# Altium schematic symbol library 1.3 - CD4000系列逻辑芯片.SCHLIB: 171 symbols (part 2 of 2)
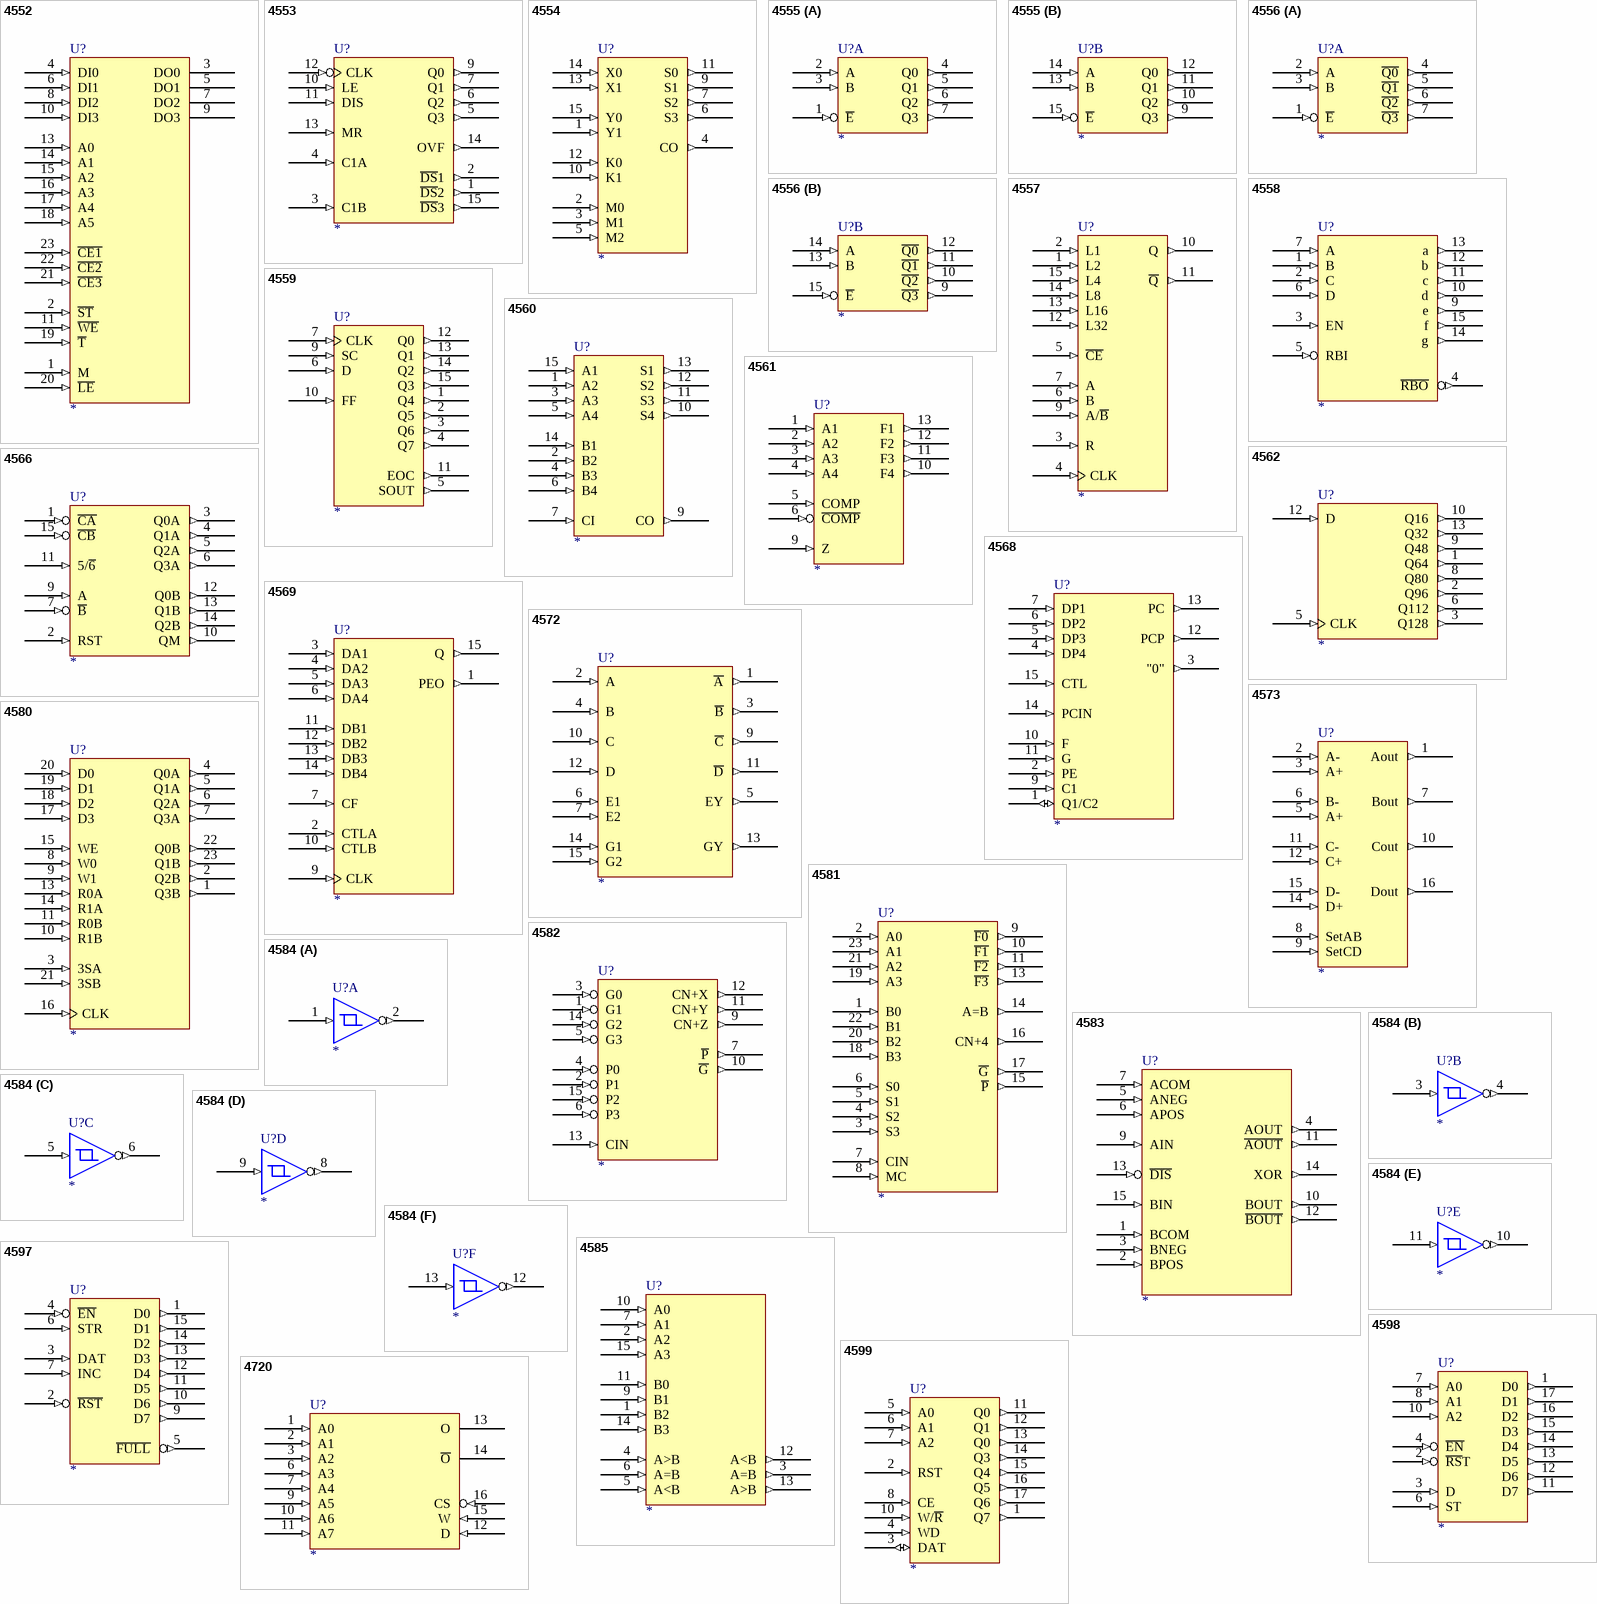
[diagram p8: symbols 4552 to 4720]

## 4558
designator U?
1.库作者: 冰凌猫; 2.库版本: v2.0 (2021.03.30); 3.交流分享: Q群514746572,开源更新,欢迎一起交流学习PCB设计; 4.作者声明: 旨为整合最全库集,欢迎转载,禁止商用！-冰凌猫; 5.备注说明: 该库已二次整合过网上各热销库,基本最全,无需重复搜购安装
footprint DIP-16
pins: 1 B (in), 2 C (in), 3 EN (in), 4 ~{RBO} (out), 5 RBI (in), 6 D (in), 7 A (in), 8 GND (power) hidden to GND, 9 e (out), 10 d (out), 11 c (out), 12 b (out), 13 a (out), 14 g (out), 15 f (out), 16 VCC (power) hidden to VCC

## 4559
designator U?
1.库作者: 冰凌猫; 2.库版本: v2.0 (2021.03.30); 3.交流分享: Q群514746572,开源更新,欢迎一起交流学习PCB设计; 4.作者声明: 旨为整合最全库集,欢迎转载,禁止商用！-冰凌猫; 5.备注说明: 该库已二次整合过网上各热销库,基本最全,无需重复搜购安装
footprint DIP-16
pins: 1 Q4 (out), 2 Q5 (out), 3 Q6 (out), 4 Q7 (out), 5 SOUT (out), 6 D (in), 7 CLK (in), 8 GND (power) hidden to GND, 9 SC (in), 10 FF (in), 11 EOC (out), 12 Q0 (out), 13 Q1 (out), 14 Q2 (out), 15 Q3 (out), 16 VCC (power) hidden to VCC

## 4560
designator U?
1.库作者: 冰凌猫; 2.库版本: v2.0 (2021.03.30); 3.交流分享: Q群514746572,开源更新,欢迎一起交流学习PCB设计; 4.作者声明: 旨为整合最全库集,欢迎转载,禁止商用！-冰凌猫; 5.备注说明: 该库已二次整合过网上各热销库,基本最全,无需重复搜购安装
footprint DIP-16
pins: 1 A2 (in), 2 B2 (in), 3 A3 (in), 4 B3 (in), 5 A4 (in), 6 B4 (in), 7 CI (in), 8 GND (power) hidden to GND, 9 CO (out), 10 S4 (out), 11 S3 (out), 12 S2 (out), 13 S1 (out), 14 B1 (in), 15 A1 (in), 16 VCC (power) hidden to VCC

## 4561
designator U?
1.库作者: 冰凌猫; 2.库版本: v2.0 (2021.03.30); 3.交流分享: Q群514746572,开源更新,欢迎一起交流学习PCB设计; 4.作者声明: 旨为整合最全库集,欢迎转载,禁止商用！-冰凌猫; 5.备注说明: 该库已二次整合过网上各热销库,基本最全,无需重复搜购安装
footprint DIP-14
pins: 1 A1 (in), 2 A2 (in), 3 A3 (in), 4 A4 (in), 5 COMP (in), 6 ~{COMP} (in), 7 GND (power) hidden to GND, 9 Z (in), 10 F4 (out), 11 F3 (out), 12 F2 (out), 13 F1 (out), 14 VCC (power) hidden to VCC

## 4562
designator U?
1.库作者: 冰凌猫; 2.库版本: v2.0 (2021.03.30); 3.交流分享: Q群514746572,开源更新,欢迎一起交流学习PCB设计; 4.作者声明: 旨为整合最全库集,欢迎转载,禁止商用！-冰凌猫; 5.备注说明: 该库已二次整合过网上各热销库,基本最全,无需重复搜购安装
footprint DIP-14
pins: 1 Q64 (out), 2 Q96 (out), 3 Q128 (out), 5 CLK (in), 6 Q112 (out), 7 GND (power) hidden to GND, 8 Q80 (out), 9 Q48 (out), 10 Q16 (out), 12 D (in), 13 Q32 (out), 14 VCC (power) hidden to VCC

## 4566
designator U?
1.库作者: 冰凌猫; 2.库版本: v2.0 (2021.03.30); 3.交流分享: Q群514746572,开源更新,欢迎一起交流学习PCB设计; 4.作者声明: 旨为整合最全库集,欢迎转载,禁止商用！-冰凌猫; 5.备注说明: 该库已二次整合过网上各热销库,基本最全,无需重复搜购安装
footprint DIP-16
pins: 1 ~{CA} (in), 2 RST (in), 3 Q0A (out), 4 Q1A (out), 5 Q2A (out), 6 Q3A (out), 7 ~{B} (in), 8 GND (power) hidden to GND, 9 A (in), 10 QM (out), 11 5/~{6} (in), 12 Q0B (out), 13 Q1B (out), 14 Q2B (out), 15 ~{CB} (in), 16 VCC (power) hidden to VCC

## 4568
designator U?
1.库作者: 冰凌猫; 2.库版本: v2.0 (2021.03.30); 3.交流分享: Q群514746572,开源更新,欢迎一起交流学习PCB设计; 4.作者声明: 旨为整合最全库集,欢迎转载,禁止商用！-冰凌猫; 5.备注说明: 该库已二次整合过网上各热销库,基本最全,无需重复搜购安装
footprint DIP-16
pins: 1 Q1/C2 (io), 2 PE (in), 3 "0" (out), 4 DP4 (in), 5 DP3 (in), 6 DP2 (in), 7 DP1 (in), 8 GND (power) hidden to GND, 9 C1 (in), 10 F (in), 11 G (in), 12 PCP (out), 13 PC (out), 14 PCIN (in), 15 CTL (in), 16 VCC (power) hidden to VCC

## 4569
designator U?
1.库作者: 冰凌猫; 2.库版本: v2.0 (2021.03.30); 3.交流分享: Q群514746572,开源更新,欢迎一起交流学习PCB设计; 4.作者声明: 旨为整合最全库集,欢迎转载,禁止商用！-冰凌猫; 5.备注说明: 该库已二次整合过网上各热销库,基本最全,无需重复搜购安装
footprint DIP-16
pins: 1 PEO (out), 2 CTLA (in), 3 DA1 (in), 4 DA2 (in), 5 DA3 (in), 6 DA4 (in), 7 CF (in), 8 GND (power) hidden to GND, 9 CLK (in), 10 CTLB (in), 11 DB1 (in), 12 DB2 (in), 13 DB3 (in), 14 DB4 (in), 15 Q (out), 16 VCC (power) hidden to VCC

## 4572
designator U?
1.库作者: 冰凌猫; 2.库版本: v2.0 (2021.03.30); 3.交流分享: Q群514746572,开源更新,欢迎一起交流学习PCB设计; 4.作者声明: 旨为整合最全库集,欢迎转载,禁止商用！-冰凌猫; 5.备注说明: 该库已二次整合过网上各热销库,基本最全,无需重复搜购安装
footprint DIP-16
pins: 1 ~{A} (out), 2 A (in), 3 ~{B} (out), 4 B (in), 5 EY (out), 6 E1 (in), 7 E2 (in), 8 GND (power) hidden to GND, 9 ~{C} (out), 10 C (in), 11 ~{D} (out), 12 D (in), 13 GY (out), 14 G1 (in), 15 G2 (in), 16 VCC (power) hidden to VCC

## 4573
designator U?
1.库作者: 冰凌猫; 2.库版本: v2.0 (2021.03.30); 3.交流分享: Q群514746572,开源更新,欢迎一起交流学习PCB设计; 4.作者声明: 旨为整合最全库集,欢迎转载,禁止商用！-冰凌猫; 5.备注说明: 该库已二次整合过网上各热销库,基本最全,无需重复搜购安装
footprint DIP-16
pins: 1 Aout (out), 2 A- (in), 3 A+ (in), 4 VCC (power) hidden to VCC, 5 A+ (in), 6 B- (in), 7 Bout (out), 8 SetAB (in), 9 SetCD (in), 10 Cout (out), 11 C- (in), 12 C+ (in), 13 GND (power) hidden to GND, 14 D+ (in), 15 D- (in), 16 Dout (out)

## 4580
designator U?
1.库作者: 冰凌猫; 2.库版本: v2.0 (2021.03.30); 3.交流分享: Q群514746572,开源更新,欢迎一起交流学习PCB设计; 4.作者声明: 旨为整合最全库集,欢迎转载,禁止商用！-冰凌猫; 5.备注说明: 该库已二次整合过网上各热销库,基本最全,无需重复搜购安装
footprint DIP-24
pins: 1 Q3B (out), 2 Q2B (out), 3 3SA (in), 4 Q0A (out), 5 Q1A (out), 6 Q2A (out), 7 Q3A (out), 8 W0 (in), 9 W1 (in), 10 R1B (in), 11 R0B (in), 12 GND (power) hidden to GND, 13 R0A (in), 14 R1A (in), 15 WE (in), 16 CLK (in), 17 D3 (in), 18 D2 (in), 19 D1 (in), 20 D0 (in), 21 3SB (in), 22 Q0B (out), 23 Q1B (out), 24 VCC (power) hidden to VCC

## 4581
designator U?
1.库作者: 冰凌猫; 2.库版本: v2.0 (2021.03.30); 3.交流分享: Q群514746572,开源更新,欢迎一起交流学习PCB设计; 4.作者声明: 旨为整合最全库集,欢迎转载,禁止商用！-冰凌猫; 5.备注说明: 该库已二次整合过网上各热销库,基本最全,无需重复搜购安装
footprint DIP-24
pins: 1 B0 (in), 2 A0 (in), 3 S3 (in), 4 S2 (in), 5 S1 (in), 6 S0 (in), 7 CIN (in), 8 MC (in), 9 ~{F0} (out), 10 ~{F1} (out), 11 ~{F2} (out), 12 GND (power) hidden to GND, 13 ~{F3} (out), 14 A=B (out), 15 ~{P} (out), 16 CN+4 (out), 17 ~{G} (out), 18 B3 (in), 19 A3 (in), 20 B2 (in), 21 A2 (in), 22 B1 (in), 23 A1 (in), 24 VCC (power) hidden to VCC

## 4582
designator U?
1.库作者: 冰凌猫; 2.库版本: v2.0 (2021.03.30); 3.交流分享: Q群514746572,开源更新,欢迎一起交流学习PCB设计; 4.作者声明: 旨为整合最全库集,欢迎转载,禁止商用！-冰凌猫; 5.备注说明: 该库已二次整合过网上各热销库,基本最全,无需重复搜购安装
footprint DIP-16
pins: 1 G1 (in), 2 P1 (in), 3 G0 (in), 4 P0 (in), 5 G3 (in), 6 P3 (in), 7 ~{P} (out), 8 GND (power) hidden to GND, 9 CN+Z (out), 10 ~{G} (out), 11 CN+Y (out), 12 CN+X (out), 13 CIN (in), 14 G2 (in), 15 P2 (in), 16 VCC (power) hidden to VCC

## 4583
designator U?
1.库作者: 冰凌猫; 2.库版本: v2.0 (2021.03.30); 3.交流分享: Q群514746572,开源更新,欢迎一起交流学习PCB设计; 4.作者声明: 旨为整合最全库集,欢迎转载,禁止商用！-冰凌猫; 5.备注说明: 该库已二次整合过网上各热销库,基本最全,无需重复搜购安装
footprint DIP-16
pins: 1 BCOM (in), 2 BPOS (in), 3 BNEG (in), 4 AOUT (out), 5 ANEG (in), 6 APOS (in), 7 ACOM (in), 8 GND (power) hidden to GND, 9 AIN (in), 10 BOUT (out), 11 ~{AOUT} (out), 12 ~{BOUT} (out), 13 ~{DIS} (in), 14 XOR (out), 15 BIN (in), 16 VCC (power) hidden to VCC

## 4584
designator U?
1.库作者: 冰凌猫; 2.库版本: v2.0 (2021.03.30); 3.交流分享: Q群514746572,开源更新,欢迎一起交流学习PCB设计; 4.作者声明: 旨为整合最全库集,欢迎转载,禁止商用！-冰凌猫; 5.备注说明: 该库已二次整合过网上各热销库,基本最全,无需重复搜购安装
footprint DIP-14
part A pins: 1 (in), 2 (out), 7 GND (power) hidden to GND, 14 VCC (power) hidden to VCC
part B pins: 3 (in), 4 (out), 7 GND (power) hidden to GND, 14 VCC (power) hidden to VCC
part C pins: 5 (in), 6 (out), 7 GND (power) hidden to GND, 14 VCC (power) hidden to VCC
part D pins: 7 GND (power) hidden to GND, 8 (out), 9 (in), 14 VCC (power) hidden to VCC
part E pins: 7 GND (power) hidden to GND, 10 (out), 11 (in), 14 VCC (power) hidden to VCC
part F pins: 7 GND (power) hidden to GND, 12 (out), 13 (in), 14 VCC (power) hidden to VCC

## 4585
designator U?
1.库作者: 冰凌猫; 2.库版本: v2.0 (2021.03.30); 3.交流分享: Q群514746572,开源更新,欢迎一起交流学习PCB设计; 4.作者声明: 旨为整合最全库集,欢迎转载,禁止商用！-冰凌猫; 5.备注说明: 该库已二次整合过网上各热销库,基本最全,无需重复搜购安装
footprint DIP-16
pins: 1 B2 (in), 2 A2 (in), 3 A=B (out), 4 A>B (in), 5 A<B (in), 6 A=B (in), 7 A1 (in), 8 GND (power) hidden to GND, 9 B1 (in), 10 A0 (in), 11 B0 (in), 12 A<B (out), 13 A>B (out), 14 B3 (in), 15 A3 (in), 16 VCC (power) hidden to VCC

## 4597
designator U?
1.库作者: 冰凌猫; 2.库版本: v2.0 (2021.03.30); 3.交流分享: Q群514746572,开源更新,欢迎一起交流学习PCB设计; 4.作者声明: 旨为整合最全库集,欢迎转载,禁止商用！-冰凌猫; 5.备注说明: 该库已二次整合过网上各热销库,基本最全,无需重复搜购安装
footprint DIP-16
pins: 1 D0 (out), 2 ~{RST} (in), 3 DAT (in), 4 ~{EN} (in), 5 ~{FULL} (out), 6 STR (in), 7 INC (in), 8 GND (power) hidden to GND, 9 D7 (out), 10 D6 (out), 11 D5 (out), 12 D4 (out), 13 D3 (out), 14 D2 (out), 15 D1 (out), 16 VCC (power) hidden to VCC

## 4598
designator U?
1.库作者: 冰凌猫; 2.库版本: v2.0 (2021.03.30); 3.交流分享: Q群514746572,开源更新,欢迎一起交流学习PCB设计; 4.作者声明: 旨为整合最全库集,欢迎转载,禁止商用！-冰凌猫; 5.备注说明: 该库已二次整合过网上各热销库,基本最全,无需重复搜购安装
footprint DIP-16
pins: 1 D0 (out), 2 ~{RS}T (in), 3 D (in), 4 ~{EN} (in), 6 ST (in), 7 A0 (in), 8 GND (power) hidden to GND, 8 A1 (in), 10 A2 (in), 11 D7 (out), 12 D6 (out), 13 D5 (out), 14 D4 (out), 15 D3 (out), 16 VCC (power) hidden to VCC, 16 D2 (out), 17 D1 (out)

## 4599
designator U?
1.库作者: 冰凌猫; 2.库版本: v2.0 (2021.03.30); 3.交流分享: Q群514746572,开源更新,欢迎一起交流学习PCB设计; 4.作者声明: 旨为整合最全库集,欢迎转载,禁止商用！-冰凌猫; 5.备注说明: 该库已二次整合过网上各热销库,基本最全,无需重复搜购安装
footprint DIP-18
pins: 1 Q7 (out), 2 RST (in), 3 DAT (io), 4 WD (in), 5 A0 (in), 6 A1 (in), 7 A2 (in), 8 CE (in), 9 GND (power) hidden to GND, 10 W/~{R} (in), 11 Q0 (out), 12 Q1 (out), 13 Q0 (out), 14 Q3 (out), 15 Q4 (out), 16 Q5 (out), 17 Q6 (out), 18 VCC (power) hidden to VCC

## 4720
designator U?
1.库作者: 冰凌猫; 2.库版本: v2.0 (2021.03.30); 3.交流分享: Q群514746572,开源更新,欢迎一起交流学习PCB设计; 4.作者声明: 旨为整合最全库集,欢迎转载,禁止商用！-冰凌猫; 5.备注说明: 该库已二次整合过网上各热销库,基本最全,无需重复搜购安装
footprint DIP-16
pins: 1 A0 (in), 2 A1 (in), 3 A2 (in), 5 VCC (power) hidden to VCC, 6 A3 (in), 7 A4 (in), 8 GND (power) hidden to GND, 9 A5 (in), 10 A6 (in), 11 A7 (in), 12 D (in), 13 O (hiz), 14 ~{O} (hiz), 15 W (in), 16 CS (in)

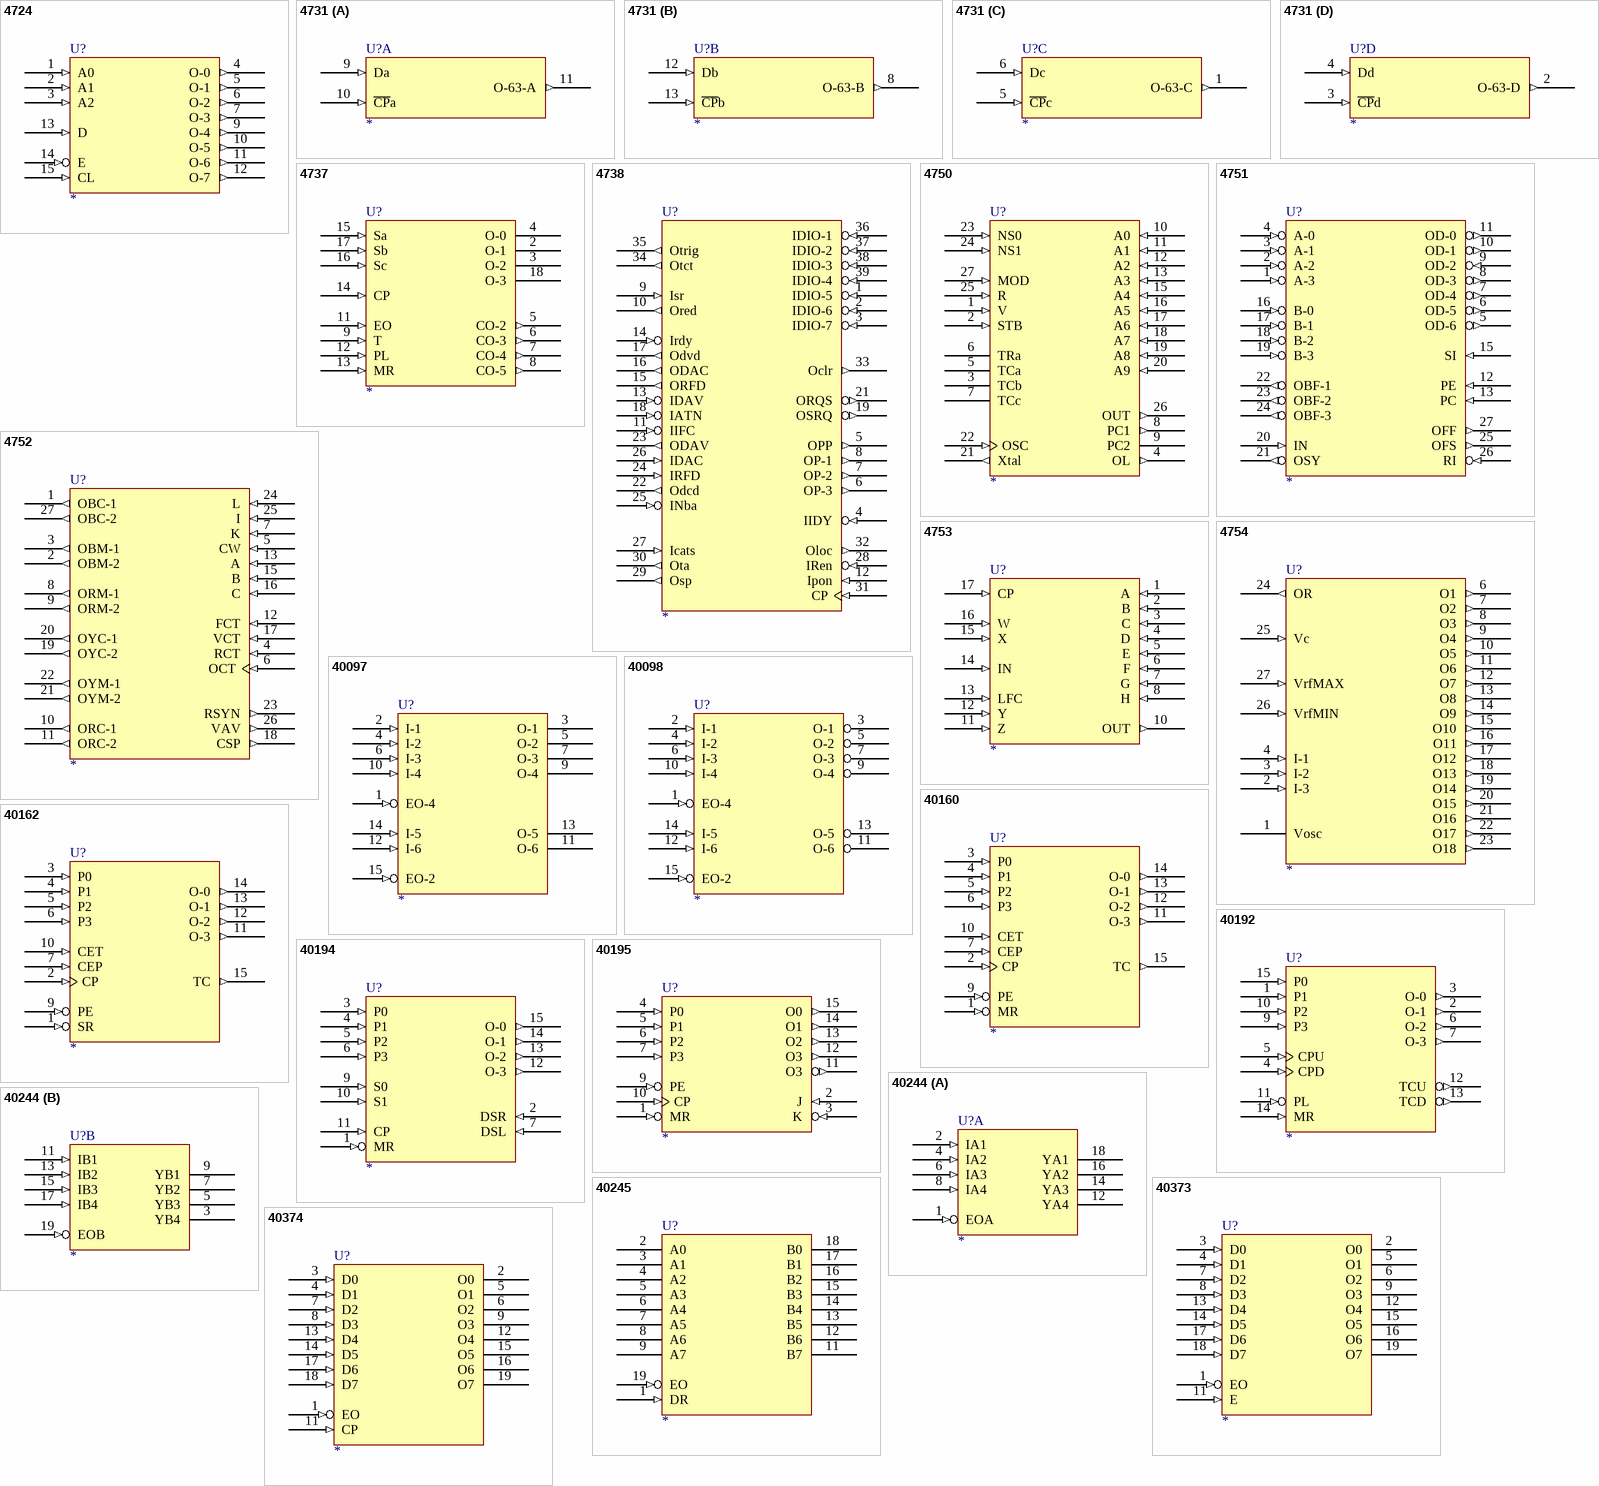
[diagram p6: symbols 4724 to 40374]

## 4724
designator U?
1.库作者: 冰凌猫; 2.库版本: v2.0 (2021.03.30); 3.交流分享: Q群514746572,开源更新,欢迎一起交流学习PCB设计; 4.作者声明: 旨为整合最全库集,欢迎转载,禁止商用！-冰凌猫; 5.备注说明: 该库已二次整合过网上各热销库,基本最全,无需重复搜购安装
footprint DIP-16
pins: 1 A0 (in), 2 A1 (in), 3 A2 (in), 4 O-0 (out), 5 O-1 (out), 6 O-2 (out), 7 O-3 (out), 8 GND (power) hidden to GND, 9 O-4 (out), 10 O-5 (out), 11 O-6 (out), 12 O-7 (out), 13 D (in), 14 E (in), 15 CL (in), 16 VCC (power) hidden to VCC

## 4731
designator U?
1.库作者: 冰凌猫; 2.库版本: v2.0 (2021.03.30); 3.交流分享: Q群514746572,开源更新,欢迎一起交流学习PCB设计; 4.作者声明: 旨为整合最全库集,欢迎转载,禁止商用！-冰凌猫; 5.备注说明: 该库已二次整合过网上各热销库,基本最全,无需重复搜购安装
footprint DIP-14
part A pins: 7 GND (power) hidden to GND, 9 Da (in), 10 ~{CP}a (in), 11 O-63-A (out), 14 VCC (power) hidden to VCC
part B pins: 7 GND (power) hidden to GND, 8 O-63-B (out), 12 Db (in), 13 ~{CP}b (in), 14 VCC (power) hidden to VCC
part C pins: 1 O-63-C (out), 5 ~{CP}c (in), 6 Dc (in), 7 GND (power) hidden to GND, 14 VCC (power) hidden to VCC
part D pins: 2 O-63-D (out), 3 ~{CP}d (in), 4 Dd (in), 7 GND (power) hidden to GND, 14 VCC (power) hidden to VCC

## 4737
designator U?
1.库作者: 冰凌猫; 2.库版本: v2.0 (2021.03.30); 3.交流分享: Q群514746572,开源更新,欢迎一起交流学习PCB设计; 4.作者声明: 旨为整合最全库集,欢迎转载,禁止商用！-冰凌猫; 5.备注说明: 该库已二次整合过网上各热销库,基本最全,无需重复搜购安装
footprint DIP-18
pins: 1 GND (power) hidden to GND, 2 O-1 (hiz), 3 O-2 (hiz), 4 O-0 (hiz), 5 CO-2 (out), 6 CO-3 (out), 7 CO-4 (out), 8 CO-5 (out), 9 T (in), 10 VCC (power) hidden to VCC, 11 EO (in), 12 PL (in), 13 MR (in), 14 CP (in), 15 Sa (in), 16 Sc (in), 17 Sb (in), 18 O-3 (hiz)

## 4738
designator U?
1.库作者: 冰凌猫; 2.库版本: v2.0 (2021.03.30); 3.交流分享: Q群514746572,开源更新,欢迎一起交流学习PCB设计; 4.作者声明: 旨为整合最全库集,欢迎转载,禁止商用！-冰凌猫; 5.备注说明: 该库已二次整合过网上各热销库,基本最全,无需重复搜购安装
footprint DIP-40
pins: 1 IDIO-5 (in), 2 IDIO-6 (in), 3 IDIO-7 (in), 4 IIDY (in), 5 OPP (out), 6 OP-3 (out), 7 OP-2 (out), 8 OP-1 (out), 9 Isr (in), 10 Ored (out), 11 IIFC (in), 12 Ipon (in), 13 IDAV (in), 14 Irdy (in), 15 ORFD (out), 16 ODAC (out), 17 Odvd (out), 18 IATN (in), 19 OSRQ (out), 20 GND (power) hidden to GND, 21 ORQS (out), 22 Odcd (out), 23 ODAV (out), 24 IRFD (in), 25 INba (in), 26 IDAC (in), 27 Icats (in), 28 IRen (in), 29 Osp (out), 30 Ota (out), 31 CP (in), 32 Oloc (out), 33 Oclr (out), 34 Otct (out), 35 Otrig (out), 36 IDIO-1 (in), 37 IDIO-2 (in), 38 IDIO-3 (in), 39 IDIO-4 (in), 40 VCC (power) hidden to VCC

## 4750
designator U?
1.库作者: 冰凌猫; 2.库版本: v2.0 (2021.03.30); 3.交流分享: Q群514746572,开源更新,欢迎一起交流学习PCB设计; 4.作者声明: 旨为整合最全库集,欢迎转载,禁止商用！-冰凌猫; 5.备注说明: 该库已二次整合过网上各热销库,基本最全,无需重复搜购安装
footprint DIP-28
pins: 1 V (in), 2 STB (in), 3 TCb, 4 OL (out), 5 TCa, 6 TRa, 7 TCc, 8 PC1 (out), 9 PC2 (hiz), 10 A0 (in), 11 A1 (in), 12 A2 (in), 13 A3 (in), 14 GND (power) hidden to GND, 15 A4 (in), 16 A5 (in), 17 A6 (in), 18 A7 (in), 19 A8 (in), 20 A9 (in), 21 Xtal (out), 22 OSC (in), 23 NS0 (in), 24 NS1 (in), 25 R (in), 26 OUT (out), 27 MOD (in), 28 VCC (power) hidden to VCC

## 4751
designator U?
1.库作者: 冰凌猫; 2.库版本: v2.0 (2021.03.30); 3.交流分享: Q群514746572,开源更新,欢迎一起交流学习PCB设计; 4.作者声明: 旨为整合最全库集,欢迎转载,禁止商用！-冰凌猫; 5.备注说明: 该库已二次整合过网上各热销库,基本最全,无需重复搜购安装
footprint DIP-28
pins: 1 A-3 (in), 2 A-2 (in), 3 A-1 (in), 4 A-0 (in), 5 OD-6 (out), 6 OD-5 (out), 7 OD-4 (out), 8 OD-3 (out), 9 OD-2 (in), 10 OD-1 (out), 11 OD-0 (out), 12 PE (in), 13 PC (in), 14 GND (power) hidden to GND, 15 SI (in), 16 B-0 (in), 17 B-1 (in), 18 B-2 (in), 19 B-3 (in), 20 IN (in), 21 OSY (out), 22 OBF-1 (out), 23 OBF-2 (out), 24 OBF-3 (out), 25 OFS (out), 26 RI (in), 27 OFF (out), 28 VCC (power) hidden to VCC

## 4752
designator U?
1.库作者: 冰凌猫; 2.库版本: v2.0 (2021.03.30); 3.交流分享: Q群514746572,开源更新,欢迎一起交流学习PCB设计; 4.作者声明: 旨为整合最全库集,欢迎转载,禁止商用！-冰凌猫; 5.备注说明: 该库已二次整合过网上各热销库,基本最全,无需重复搜购安装
footprint DIP-28
pins: 1 OBC-1 (out), 2 OBM-2 (out), 3 OBM-1 (out), 4 RCT (in), 5 CW (in), 6 OCT (in), 7 K (in), 8 ORM-1 (out), 9 ORM-2 (out), 10 ORC-1 (out), 11 ORC-2 (out), 12 FCT (in), 13 A (in), 14 GND (power) hidden to GND, 15 B (in), 16 C (in), 17 VCT (in), 18 CSP (out), 19 OYC-2 (out), 20 OYC-1 (out), 21 OYM-2 (out), 22 OYM-1 (out), 23 RSYN (out), 24 L (in), 25 I (in), 26 VAV (out), 27 OBC-2 (out), 28 VCC (power) hidden to VCC

## 4753
designator U?
1.库作者: 冰凌猫; 2.库版本: v2.0 (2021.03.30); 3.交流分享: Q群514746572,开源更新,欢迎一起交流学习PCB设计; 4.作者声明: 旨为整合最全库集,欢迎转载,禁止商用！-冰凌猫; 5.备注说明: 该库已二次整合过网上各热销库,基本最全,无需重复搜购安装
footprint DIP-18
pins: 1 A (in), 2 B (in), 3 C (in), 4 D (in), 5 E (in), 6 F (in), 7 G (in), 8 H (in), 9 GND (power) hidden to GND, 10 OUT (out), 11 Z (in), 12 Y (in), 13 LFC (in), 14 IN (in), 15 X (in), 16 W (in), 17 CP (in), 18 VCC (power) hidden to VCC

## 4754
designator U?
1.库作者: 冰凌猫; 2.库版本: v2.0 (2021.03.30); 3.交流分享: Q群514746572,开源更新,欢迎一起交流学习PCB设计; 4.作者声明: 旨为整合最全库集,欢迎转载,禁止商用！-冰凌猫; 5.备注说明: 该库已二次整合过网上各热销库,基本最全,无需重复搜购安装
footprint DIP-28
pins: 1 Vosc, 2 I-3 (in), 3 I-2 (in), 4 I-1 (in), 5 GND (power) hidden to GND, 6 O1 (out), 7 O2 (out), 8 O3 (out), 9 O4 (out), 10 O5 (out), 11 O6 (out), 12 O7 (out), 13 O8 (out), 14 O9 (out), 15 O10 (out), 16 O11 (out), 17 O12 (out), 18 O13 (out), 19 O14 (out), 20 O15 (out), 21 O16 (out), 22 O17 (out), 23 O18 (out), 24 OR (out), 25 Vc (in), 26 VrfMIN (in), 27 VrfMAX (in), 28 VCC (power) hidden to VCC

## 40097
designator U?
1.库作者: 冰凌猫; 2.库版本: v2.0 (2021.03.30); 3.交流分享: Q群514746572,开源更新,欢迎一起交流学习PCB设计; 4.作者声明: 旨为整合最全库集,欢迎转载,禁止商用！-冰凌猫; 5.备注说明: 该库已二次整合过网上各热销库,基本最全,无需重复搜购安装
footprint DIP-16
pins: 1 EO-4 (in), 2 I-1 (in), 3 O-1 (hiz), 4 I-2 (in), 5 O-2 (hiz), 6 I-3 (in), 7 O-3 (hiz), 8 GND (power) hidden to GND, 9 O-4 (hiz), 10 I-4 (in), 11 O-6 (hiz), 12 I-6 (in), 13 O-5 (hiz), 14 I-5 (in), 15 EO-2 (in), 16 VCC (power) hidden to VCC

## 40098
designator U?
1.库作者: 冰凌猫; 2.库版本: v2.0 (2021.03.30); 3.交流分享: Q群514746572,开源更新,欢迎一起交流学习PCB设计; 4.作者声明: 旨为整合最全库集,欢迎转载,禁止商用！-冰凌猫; 5.备注说明: 该库已二次整合过网上各热销库,基本最全,无需重复搜购安装
footprint DIP-16
pins: 1 EO-4 (in), 2 I-1 (in), 3 O-1 (hiz), 4 I-2 (in), 5 O-2 (hiz), 6 I-3 (in), 7 O-3 (hiz), 8 GND (power) hidden to GND, 9 O-4 (hiz), 10 I-4 (in), 11 O-6 (hiz), 12 I-6 (in), 13 O-5 (hiz), 14 I-5 (in), 15 EO-2 (in), 16 VCC (power) hidden to VCC

## 40160
designator U?
1.库作者: 冰凌猫; 2.库版本: v2.0 (2021.03.30); 3.交流分享: Q群514746572,开源更新,欢迎一起交流学习PCB设计; 4.作者声明: 旨为整合最全库集,欢迎转载,禁止商用！-冰凌猫; 5.备注说明: 该库已二次整合过网上各热销库,基本最全,无需重复搜购安装
footprint DIP-16
pins: 1 MR (in), 2 CP (in), 3 P0 (in), 4 P1 (in), 5 P2 (in), 6 P3 (in), 7 CEP (in), 8 GND (power) hidden to GND, 9 PE (in), 10 CET (in), 11 O-3 (out), 12 O-2 (out), 13 O-1 (out), 14 O-0 (out), 15 TC (out), 16 VCC (power) hidden to VCC

## 40162
designator U?
1.库作者: 冰凌猫; 2.库版本: v2.0 (2021.03.30); 3.交流分享: Q群514746572,开源更新,欢迎一起交流学习PCB设计; 4.作者声明: 旨为整合最全库集,欢迎转载,禁止商用！-冰凌猫; 5.备注说明: 该库已二次整合过网上各热销库,基本最全,无需重复搜购安装
footprint DIP-16
pins: 1 SR (in), 2 CP (in), 3 P0 (in), 4 P1 (in), 5 P2 (in), 6 P3 (in), 7 CEP (in), 8 GND (power) hidden to GND, 9 PE (in), 10 CET (in), 11 O-3 (out), 12 O-2 (out), 13 O-1 (out), 14 O-0 (out), 15 TC (out), 16 VCC (power) hidden to VCC

## 40192
designator U?
1.库作者: 冰凌猫; 2.库版本: v2.0 (2021.03.30); 3.交流分享: Q群514746572,开源更新,欢迎一起交流学习PCB设计; 4.作者声明: 旨为整合最全库集,欢迎转载,禁止商用！-冰凌猫; 5.备注说明: 该库已二次整合过网上各热销库,基本最全,无需重复搜购安装
footprint DIP-16
pins: 1 P1 (in), 2 O-1 (out), 3 O-0 (out), 4 CPD (in), 5 CPU (in), 6 O-2 (out), 7 O-3 (out), 8 GND (power) hidden to GND, 9 P3 (in), 10 P2 (in), 11 PL (in), 12 TCU (out), 13 TCD (out), 14 MR (in), 15 P0 (in), 16 VCC (power) hidden to VCC

## 40194
designator U?
1.库作者: 冰凌猫; 2.库版本: v2.0 (2021.03.30); 3.交流分享: Q群514746572,开源更新,欢迎一起交流学习PCB设计; 4.作者声明: 旨为整合最全库集,欢迎转载,禁止商用！-冰凌猫; 5.备注说明: 该库已二次整合过网上各热销库,基本最全,无需重复搜购安装
footprint DIP-16
pins: 1 MR (in), 2 DSR (in), 3 P0 (in), 4 P1 (in), 5 P2 (in), 6 P3 (in), 7 DSL (in), 8 GND (power) hidden to GND, 9 S0 (in), 10 S1 (in), 11 CP (in), 12 O-3 (out), 13 O-2 (out), 14 O-1 (out), 15 O-0 (out), 16 VCC (power) hidden to VCC

## 40195
designator U?
1.库作者: 冰凌猫; 2.库版本: v2.0 (2021.03.30); 3.交流分享: Q群514746572,开源更新,欢迎一起交流学习PCB设计; 4.作者声明: 旨为整合最全库集,欢迎转载,禁止商用！-冰凌猫; 5.备注说明: 该库已二次整合过网上各热销库,基本最全,无需重复搜购安装
footprint DIP-16
pins: 1 MR (in), 2 J (in), 3 K (in), 4 P0 (in), 5 P1 (in), 6 P2 (in), 7 P3 (in), 8 GND (power) hidden to GND, 9 PE (in), 10 CP (in), 11 O3 (out), 12 O3 (out), 13 O2 (out), 14 O1 (out), 15 O0 (out), 16 VCC (power) hidden to VCC

## 40244
designator U?
1.库作者: 冰凌猫; 2.库版本: v2.0 (2021.03.30); 3.交流分享: Q群514746572,开源更新,欢迎一起交流学习PCB设计; 4.作者声明: 旨为整合最全库集,欢迎转载,禁止商用！-冰凌猫; 5.备注说明: 该库已二次整合过网上各热销库,基本最全,无需重复搜购安装
footprint DIP-20
part A pins: 1 EOA (in), 2 IA1 (in), 4 IA2 (in), 6 IA3 (in), 8 IA4 (in), 10 GND (power) hidden to GND, 12 YA4 (hiz), 14 YA3 (hiz), 16 YA2 (hiz), 18 YA1 (hiz), 20 VCC (power) hidden to VCC
part B pins: 3 YB4 (hiz), 5 YB3 (hiz), 7 YB2 (hiz), 9 YB1 (hiz), 10 GND (power) hidden to GND, 11 IB1 (in), 13 IB2 (in), 15 IB3 (in), 17 IB4 (in), 19 EOB (in), 20 VCC (power) hidden to VCC

## 40245
designator U?
1.库作者: 冰凌猫; 2.库版本: v2.0 (2021.03.30); 3.交流分享: Q群514746572,开源更新,欢迎一起交流学习PCB设计; 4.作者声明: 旨为整合最全库集,欢迎转载,禁止商用！-冰凌猫; 5.备注说明: 该库已二次整合过网上各热销库,基本最全,无需重复搜购安装
footprint DIP-20
pins: 1 DR (in), 2 A0 (hiz), 3 A1 (hiz), 4 A2 (hiz), 5 A3 (hiz), 6 A4 (hiz), 7 A5 (hiz), 8 A6 (hiz), 9 A7 (hiz), 10 GND (power) hidden to GND, 11 B7 (hiz), 12 B6 (hiz), 13 B5 (hiz), 14 B4 (hiz), 15 B3 (hiz), 16 B2 (hiz), 17 B1 (hiz), 18 B0 (hiz), 19 EO (in), 20 VCC (power) hidden to VCC

## 40373
designator U?
1.库作者: 冰凌猫; 2.库版本: v2.0 (2021.03.30); 3.交流分享: Q群514746572,开源更新,欢迎一起交流学习PCB设计; 4.作者声明: 旨为整合最全库集,欢迎转载,禁止商用！-冰凌猫; 5.备注说明: 该库已二次整合过网上各热销库,基本最全,无需重复搜购安装
footprint DIP-20
pins: 1 EO (in), 2 O0 (hiz), 3 D0 (in), 4 D1 (in), 5 O1 (hiz), 6 O2 (hiz), 7 D2 (in), 8 D3 (in), 9 O3 (hiz), 10 GND (power) hidden to GND, 11 E (in), 12 O4 (hiz), 13 D4 (in), 14 D5 (in), 15 O5 (hiz), 16 O6 (hiz), 17 D6 (in), 18 D7 (in), 19 O7 (hiz), 20 VCC (power) hidden to VCC

## 40374
designator U?
1.库作者: 冰凌猫; 2.库版本: v2.0 (2021.03.30); 3.交流分享: Q群514746572,开源更新,欢迎一起交流学习PCB设计; 4.作者声明: 旨为整合最全库集,欢迎转载,禁止商用！-冰凌猫; 5.备注说明: 该库已二次整合过网上各热销库,基本最全,无需重复搜购安装
footprint DIP-20
pins: 1 EO (in), 2 O0 (hiz), 3 D0 (in), 4 D1 (in), 5 O1 (hiz), 6 O2 (hiz), 7 D2 (in), 8 D3 (in), 9 O3 (hiz), 10 GND (power) hidden to GND, 11 CP (in), 12 O4 (hiz), 13 D4 (in), 14 D5 (in), 15 O5 (hiz), 16 O6 (hiz), 17 D6 (in), 18 D7 (in), 19 O7 (hiz), 20 VCC (power) hidden to VCC

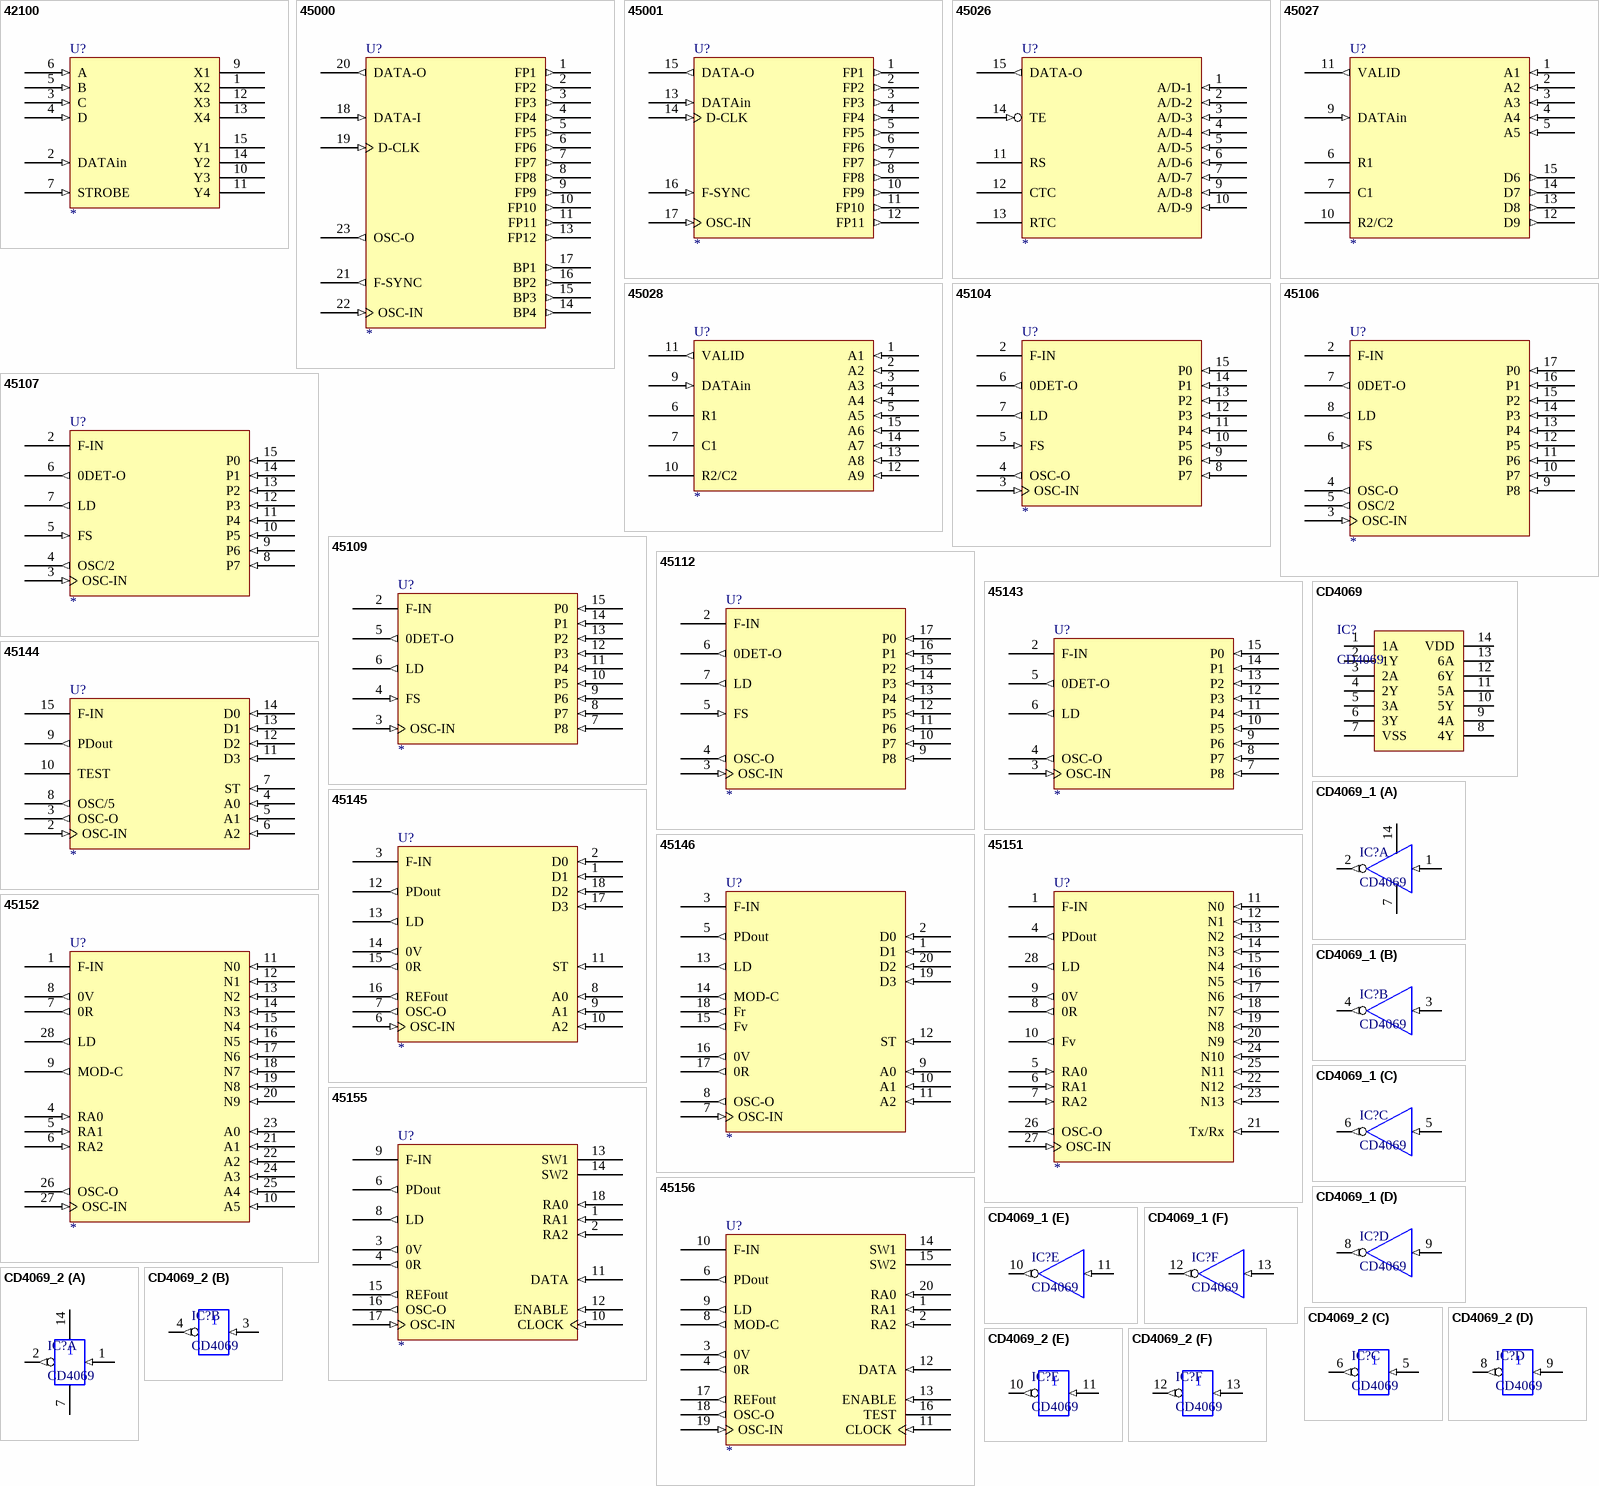
[diagram p7: symbols 42100 to CD4069_2]

## 42100
designator U?
1.库作者: 冰凌猫; 2.库版本: v2.0 (2021.03.30); 3.交流分享: Q群514746572,开源更新,欢迎一起交流学习PCB设计; 4.作者声明: 旨为整合最全库集,欢迎转载,禁止商用！-冰凌猫; 5.备注说明: 该库已二次整合过网上各热销库,基本最全,无需重复搜购安装
footprint DIP-16
pins: 1 X2, 2 DATAin (in), 3 C (in), 4 D (in), 5 B (in), 6 A (in), 7 STROBE (in), 8 GND (power) hidden to GND, 9 X1, 10 Y3, 11 Y4, 12 X3, 13 X4, 14 Y2, 15 Y1, 16 VCC (power) hidden to VCC

## 45000
designator U?
1.库作者: 冰凌猫; 2.库版本: v2.0 (2021.03.30); 3.交流分享: Q群514746572,开源更新,欢迎一起交流学习PCB设计; 4.作者声明: 旨为整合最全库集,欢迎转载,禁止商用！-冰凌猫; 5.备注说明: 该库已二次整合过网上各热销库,基本最全,无需重复搜购安装
footprint DIP-24
pins: 1 FP1 (out), 2 FP2 (out), 3 FP3 (out), 4 FP4 (out), 5 FP5 (out), 6 FP6 (out), 7 FP7 (out), 8 FP8 (out), 9 FP9 (out), 10 FP10 (out), 11 FP11 (out), 12 GND (power) hidden to GND, 13 FP12 (out), 14 BP4 (out), 15 BP3 (out), 16 BP2 (out), 17 BP1 (out), 18 DATA-I (in), 19 D-CLK (in), 20 DATA-O (out), 21 F-SYNC (out), 22 OSC-IN (in), 23 OSC-O (out), 24 VCC (power) hidden to VCC

## 45001
designator U?
1.库作者: 冰凌猫; 2.库版本: v2.0 (2021.03.30); 3.交流分享: Q群514746572,开源更新,欢迎一起交流学习PCB设计; 4.作者声明: 旨为整合最全库集,欢迎转载,禁止商用！-冰凌猫; 5.备注说明: 该库已二次整合过网上各热销库,基本最全,无需重复搜购安装
footprint DIP-18
pins: 1 FP1 (out), 2 FP2 (out), 3 FP3 (out), 4 FP4 (out), 5 FP5 (out), 6 FP6 (out), 7 FP7 (out), 8 FP8 (out), 9 GND (power) hidden to GND, 10 FP9 (out), 11 FP10 (out), 12 FP11 (out), 13 DATAin (in), 14 D-CLK (in), 15 DATA-O (out), 16 F-SYNC (in), 17 OSC-IN (in), 18 VCC (power) hidden to VCC

## 45026
designator U?
1.库作者: 冰凌猫; 2.库版本: v2.0 (2021.03.30); 3.交流分享: Q群514746572,开源更新,欢迎一起交流学习PCB设计; 4.作者声明: 旨为整合最全库集,欢迎转载,禁止商用！-冰凌猫; 5.备注说明: 该库已二次整合过网上各热销库,基本最全,无需重复搜购安装
footprint DIP-16
pins: 1 A/D-1 (in), 2 A/D-2 (in), 3 A/D-3 (in), 4 A/D-4 (in), 5 A/D-5 (in), 6 A/D-6 (in), 7 A/D-7 (in), 8 GND (power) hidden to GND, 9 A/D-8 (in), 10 A/D-9 (in), 11 RS, 12 CTC, 13 RTC, 14 TE (in), 15 DATA-O (out), 16 VCC (power) hidden to VCC

## 45027
designator U?
1.库作者: 冰凌猫; 2.库版本: v2.0 (2021.03.30); 3.交流分享: Q群514746572,开源更新,欢迎一起交流学习PCB设计; 4.作者声明: 旨为整合最全库集,欢迎转载,禁止商用！-冰凌猫; 5.备注说明: 该库已二次整合过网上各热销库,基本最全,无需重复搜购安装
footprint DIP-16
pins: 1 A1 (in), 2 A2 (in), 3 A3 (in), 4 A4 (in), 5 A5 (in), 6 R1, 7 C1, 8 GND (power) hidden to GND, 9 DATAin (in), 10 R2/C2, 11 VALID (out), 12 D9 (out), 13 D8 (out), 14 D7 (out), 15 D6 (out), 16 VCC (power) hidden to VCC

## 45028
designator U?
1.库作者: 冰凌猫; 2.库版本: v2.0 (2021.03.30); 3.交流分享: Q群514746572,开源更新,欢迎一起交流学习PCB设计; 4.作者声明: 旨为整合最全库集,欢迎转载,禁止商用！-冰凌猫; 5.备注说明: 该库已二次整合过网上各热销库,基本最全,无需重复搜购安装
footprint DIP-16
pins: 1 A1 (in), 2 A2 (in), 3 A3 (in), 4 A4 (in), 5 A5 (in), 6 R1, 7 C1, 8 GND (power) hidden to GND, 9 DATAin (in), 10 R2/C2, 11 VALID (out), 12 A9 (in), 13 A8 (in), 14 A7 (in), 15 A6 (in), 16 VCC (power) hidden to VCC

## 45104
designator U?
1.库作者: 冰凌猫; 2.库版本: v2.0 (2021.03.30); 3.交流分享: Q群514746572,开源更新,欢迎一起交流学习PCB设计; 4.作者声明: 旨为整合最全库集,欢迎转载,禁止商用！-冰凌猫; 5.备注说明: 该库已二次整合过网上各热销库,基本最全,无需重复搜购安装
footprint DIP-16
pins: 1 VCC (power) hidden to VCC, 2 F-IN, 3 OSC-IN (in), 4 OSC-O (out), 5 FS (in), 6 0DET-O (out), 7 LD (out), 8 P7 (in), 9 P6 (in), 10 P5 (in), 11 P4 (in), 12 P3 (in), 13 P2 (in), 14 P1 (in), 15 P0 (in), 16 GND (power) hidden to GND

## 45106
designator U?
1.库作者: 冰凌猫; 2.库版本: v2.0 (2021.03.30); 3.交流分享: Q群514746572,开源更新,欢迎一起交流学习PCB设计; 4.作者声明: 旨为整合最全库集,欢迎转载,禁止商用！-冰凌猫; 5.备注说明: 该库已二次整合过网上各热销库,基本最全,无需重复搜购安装
footprint DIP-18
pins: 1 VCC (power) hidden to VCC, 2 F-IN, 3 OSC-IN (in), 4 OSC-O (out), 5 OSC/2 (out), 6 FS (in), 7 0DET-O (out), 8 LD (out), 9 P8 (in), 10 P7 (in), 11 P6 (in), 12 P5 (in), 13 P4 (in), 14 P3 (in), 15 P2 (in), 16 P1 (in), 17 P0 (in), 18 GND (power) hidden to GND

## 45107
designator U?
1.库作者: 冰凌猫; 2.库版本: v2.0 (2021.03.30); 3.交流分享: Q群514746572,开源更新,欢迎一起交流学习PCB设计; 4.作者声明: 旨为整合最全库集,欢迎转载,禁止商用！-冰凌猫; 5.备注说明: 该库已二次整合过网上各热销库,基本最全,无需重复搜购安装
footprint DIP-16
pins: 1 VCC (power) hidden to VCC, 2 F-IN, 3 OSC-IN (in), 4 OSC/2 (out), 5 FS (in), 6 0DET-O (out), 7 LD (out), 8 P7 (in), 9 P6 (in), 10 P5 (in), 11 P4 (in), 12 P3 (in), 13 P2 (in), 14 P1 (in), 15 P0 (in), 16 GND (power) hidden to GND

## 45109
designator U?
1.库作者: 冰凌猫; 2.库版本: v2.0 (2021.03.30); 3.交流分享: Q群514746572,开源更新,欢迎一起交流学习PCB设计; 4.作者声明: 旨为整合最全库集,欢迎转载,禁止商用！-冰凌猫; 5.备注说明: 该库已二次整合过网上各热销库,基本最全,无需重复搜购安装
footprint DIP-16
pins: 1 VCC (power) hidden to VCC, 2 F-IN, 3 OSC-IN (in), 4 FS (in), 5 0DET-O (out), 6 LD (out), 7 P8 (in), 8 P7 (in), 9 P6 (in), 10 P5 (in), 11 P4 (in), 12 P3 (in), 13 P2 (in), 14 P1 (in), 15 P0 (in), 16 GND (power) hidden to GND

## 45112
designator U?
1.库作者: 冰凌猫; 2.库版本: v2.0 (2021.03.30); 3.交流分享: Q群514746572,开源更新,欢迎一起交流学习PCB设计; 4.作者声明: 旨为整合最全库集,欢迎转载,禁止商用！-冰凌猫; 5.备注说明: 该库已二次整合过网上各热销库,基本最全,无需重复搜购安装
footprint DIP-18
pins: 1 VCC (power) hidden to VCC, 2 F-IN, 3 OSC-IN (in), 4 OSC-O (out), 5 FS (in), 6 0DET-O (out), 7 LD (out), 9 P8 (in), 10 P7 (in), 11 P6 (in), 12 P5 (in), 13 P4 (in), 14 P3 (in), 15 P2 (in), 16 P1 (in), 17 P0 (in), 18 GND (power) hidden to GND

## 45143
designator U?
1.库作者: 冰凌猫; 2.库版本: v2.0 (2021.03.30); 3.交流分享: Q群514746572,开源更新,欢迎一起交流学习PCB设计; 4.作者声明: 旨为整合最全库集,欢迎转载,禁止商用！-冰凌猫; 5.备注说明: 该库已二次整合过网上各热销库,基本最全,无需重复搜购安装
footprint DIP-16
pins: 1 VCC (power) hidden to VCC, 2 F-IN, 3 OSC-IN (in), 4 OSC-O (out), 5 0DET-O (out), 6 LD (out), 7 P8 (in), 8 P7 (in), 9 P6 (in), 10 P5 (in), 11 P4 (in), 12 P3 (in), 13 P2 (in), 14 P1 (in), 15 P0 (in), 16 GND (power) hidden to GND

## 45144
designator U?
1.库作者: 冰凌猫; 2.库版本: v2.0 (2021.03.30); 3.交流分享: Q群514746572,开源更新,欢迎一起交流学习PCB设计; 4.作者声明: 旨为整合最全库集,欢迎转载,禁止商用！-冰凌猫; 5.备注说明: 该库已二次整合过网上各热销库,基本最全,无需重复搜购安装
footprint DIP-16
pins: 1 VCC (power) hidden to VCC, 2 OSC-IN (in), 3 OSC-O (out), 4 A0 (in), 5 A1 (in), 6 A2 (in), 7 ST (in), 8 OSC/5 (out), 9 PDout (out), 10 TEST, 11 D3 (in), 12 D2 (in), 13 D1 (in), 14 D0 (in), 15 F-IN, 16 GND (power) hidden to GND

## 45145
designator U?
1.库作者: 冰凌猫; 2.库版本: v2.0 (2021.03.30); 3.交流分享: Q群514746572,开源更新,欢迎一起交流学习PCB设计; 4.作者声明: 旨为整合最全库集,欢迎转载,禁止商用！-冰凌猫; 5.备注说明: 该库已二次整合过网上各热销库,基本最全,无需重复搜购安装
footprint DIP-18
pins: 1 D1 (in), 2 D0 (in), 3 F-IN, 4 GND (power) hidden to GND, 5 VCC (power) hidden to VCC, 6 OSC-IN (in), 7 OSC-O (out), 8 A0 (in), 9 A1 (in), 10 A2 (in), 11 ST (in), 12 PDout (out), 13 LD (out), 14 0V (out), 15 0R (out), 16 REFout (out), 17 D3 (in), 18 D2 (in)

## 45146
designator U?
1.库作者: 冰凌猫; 2.库版本: v2.0 (2021.03.30); 3.交流分享: Q群514746572,开源更新,欢迎一起交流学习PCB设计; 4.作者声明: 旨为整合最全库集,欢迎转载,禁止商用！-冰凌猫; 5.备注说明: 该库已二次整合过网上各热销库,基本最全,无需重复搜购安装
footprint DIP-20
pins: 1 D1 (in), 2 D0 (in), 3 F-IN, 4 GND (power) hidden to GND, 5 PDout (out), 6 VCC (power) hidden to VCC, 7 OSC-IN (in), 8 OSC-O (out), 9 A0 (in), 10 A1 (in), 11 A2 (in), 12 ST (in), 13 LD (out), 14 MOD-C (out), 15 Fv (out), 16 0V (out), 17 0R (out), 18 Fr (out), 19 D3 (in), 20 D2 (in)

## 45151
designator U?
1.库作者: 冰凌猫; 2.库版本: v2.0 (2021.03.30); 3.交流分享: Q群514746572,开源更新,欢迎一起交流学习PCB设计; 4.作者声明: 旨为整合最全库集,欢迎转载,禁止商用！-冰凌猫; 5.备注说明: 该库已二次整合过网上各热销库,基本最全,无需重复搜购安装
footprint DIP-28
pins: 1 F-IN, 2 GND (power) hidden to GND, 3 VCC (power) hidden to VCC, 4 PDout (out), 5 RA0 (in), 6 RA1 (in), 7 RA2 (in), 8 0R (out), 9 0V (out), 10 Fv (out), 11 N0 (in), 12 N1 (in), 13 N2 (in), 14 N3 (in), 15 N4 (in), 16 N5 (in), 17 N6 (in), 18 N7 (in), 19 N8 (in), 20 N9 (in), 21 Tx/Rx (in), 22 N12 (in), 23 N13 (in), 24 N10 (in), 25 N11 (in), 26 OSC-O (out), 27 OSC-IN (in), 28 LD (out)

## 45152
designator U?
1.库作者: 冰凌猫; 2.库版本: v2.0 (2021.03.30); 3.交流分享: Q群514746572,开源更新,欢迎一起交流学习PCB设计; 4.作者声明: 旨为整合最全库集,欢迎转载,禁止商用！-冰凌猫; 5.备注说明: 该库已二次整合过网上各热销库,基本最全,无需重复搜购安装
footprint DIP-28
pins: 1 F-IN, 2 GND (power) hidden to GND, 3 VCC (power) hidden to VCC, 4 RA0 (in), 5 RA1 (in), 6 RA2 (in), 7 0R (out), 8 0V (out), 9 MOD-C (out), 10 A5 (in), 11 N0 (in), 12 N1 (in), 13 N2 (in), 14 N3 (in), 15 N4 (in), 16 N5 (in), 17 N6 (in), 18 N7 (in), 19 N8 (in), 20 N9 (in), 21 A1 (in), 22 A2 (in), 23 A0 (in), 24 A3 (in), 25 A4 (in), 26 OSC-O (out), 27 OSC-IN (in), 28 LD (out)

## 45155
designator U?
1.库作者: 冰凌猫; 2.库版本: v2.0 (2021.03.30); 3.交流分享: Q群514746572,开源更新,欢迎一起交流学习PCB设计; 4.作者声明: 旨为整合最全库集,欢迎转载,禁止商用！-冰凌猫; 5.备注说明: 该库已二次整合过网上各热销库,基本最全,无需重复搜购安装
footprint DIP-18
pins: 1 RA1 (in), 2 RA2 (in), 3 0V (out), 4 0R (out), 5 VCC (power) hidden to VCC, 6 PDout (out), 7 GND (power) hidden to GND, 8 LD (out), 9 F-IN, 10 CLOCK (in), 11 DATA (in), 12 ENABLE (in), 13 SW1 (oc), 14 SW2 (oc), 15 REFout (out), 16 OSC-O (out), 17 OSC-IN (in), 18 RA0 (in)

## 45156
designator U?
1.库作者: 冰凌猫; 2.库版本: v2.0 (2021.03.30); 3.交流分享: Q群514746572,开源更新,欢迎一起交流学习PCB设计; 4.作者声明: 旨为整合最全库集,欢迎转载,禁止商用！-冰凌猫; 5.备注说明: 该库已二次整合过网上各热销库,基本最全,无需重复搜购安装
footprint DIP-20
pins: 1 RA1 (in), 2 RA2 (in), 3 0V (out), 4 0R (out), 5 VCC (power) hidden to VCC, 6 PDout (out), 7 GND (power) hidden to GND, 8 MOD-C (out), 9 LD (out), 10 F-IN, 11 CLOCK (in), 12 DATA (in), 13 ENABLE (in), 14 SW1 (oc), 15 SW2 (oc), 16 TEST, 17 REFout (out), 18 OSC-O (out), 19 OSC-IN (in), 20 RA0 (in)

## CD4069
designator IC?
6路反相器; 1.库作者: 冰凌猫; 2.库版本: v2.0 (2021.03.30); 3.交流分享: Q群514746572,开源更新,欢迎一起交流学习PCB设计; 4.作者声明: 旨为整合最全库集,欢迎转载,禁止商用！-冰凌猫; 5.备注说明: 该库已二次整合过网上各热销库,基本最全,无需重复搜购安装
footprint DIP14-300 (19*7.6*3.8(长宽高）)
footprint DIP14-300_MH (带底座  19*7.6*3.8(长宽高）)
footprint SOP14_L (8.7*6.2*1.8mm（长宽高）)
footprint SOP14_M (8.7*6.2*1.8mm（长宽高）)
footprint SOP14_N (8.7*6.2*1.8mm（长宽高）)
pins: 1 1A, 2 1Y, 3 2A, 4 2Y, 5 3A, 6 3Y, 7 VSS, 8 4Y, 9 4A, 10 5Y, 11 5A, 12 6Y, 13 6A, 14 VDD

## CD4069_1
designator IC?, comment CD4069
6路反相器(美标); 1.库作者: 冰凌猫; 2.库版本: v2.0 (2021.03.30); 3.交流分享: Q群514746572,开源更新,欢迎一起交流学习PCB设计; 4.作者声明: 旨为整合最全库集,欢迎转载,禁止商用！-冰凌猫; 5.备注说明: 该库已二次整合过网上各热销库,基本最全,无需重复搜购安装
footprint DIP14-300 (19*7.6*3.8(长宽高）)
footprint DIP14-300_MH (带底座  19*7.6*3.8(长宽高）)
footprint SOP14_L (8.7*6.2*1.8mm（长宽高）)
footprint SOP14_M (8.7*6.2*1.8mm（长宽高）)
footprint SOP14_N (8.7*6.2*1.8mm（长宽高）)
part A pins: 1 A (in), 2 Y (out), 7 VSS, 14 VDD
part B pins: 3 A (in), 4 Y (out)
part C pins: 5 A (in), 6 Y (out)
part D pins: 8 Y (out), 9 A (in)
part E pins: 10 Y (out), 11 A (in)
part F pins: 12 Y (out), 13 A (in)

## CD4069_2
designator IC?, comment CD4069
6路反相器(国标); 1.库作者: 冰凌猫; 2.库版本: v2.0 (2021.03.30); 3.交流分享: Q群514746572,开源更新,欢迎一起交流学习PCB设计; 4.作者声明: 旨为整合最全库集,欢迎转载,禁止商用！-冰凌猫; 5.备注说明: 该库已二次整合过网上各热销库,基本最全,无需重复搜购安装
footprint DIP14-300 (19*7.6*3.8(长宽高）)
footprint DIP14-300_MH (带底座  19*7.6*3.8(长宽高）)
footprint SOP14_L (8.7*6.2*1.8mm（长宽高）)
footprint SOP14_M (8.7*6.2*1.8mm（长宽高）)
footprint SOP14_N (8.7*6.2*1.8mm（长宽高）)
part A pins: 1 A (in), 2 Y (out), 7 VSS, 14 VDD
part B pins: 3 A (in), 4 Y (out)
part C pins: 5 A (in), 6 Y (out)
part D pins: 8 Y (out), 9 A (in)
part E pins: 10 Y (out), 11 A (in)
part F pins: 12 Y (out), 13 A (in)